# Altium schematic symbol library AP2125N-3P3TRG1.SchLib: 1 symbol
Pins are listed as number, name and electrical type; pins without a type are passive.

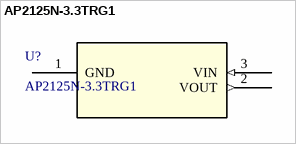
[diagram p0: symbol AP2125N-3.3TRG1]

## AP2125N-3.3TRG1
designator U?
IC REG LINEAR 3.3V 300MA SOT23-3; Manufacturer_Name: Diodes Inc; Type: Power Management; Copyright: Copyright (C) 2025 Ultra Librarian. All rights reserved.; Manufacturer_Part_Number: AP2125N-3.3TRG1; RefDes: RefDes
footprint SOT-23_DIO
pins: 1 GND (power), 2 VOUT (out), 3 VIN (in)